# Altium schematic symbol library CL_COIL.SchLib: 1 symbol
Pins are listed as number, name and electrical type; pins without a type are passive.

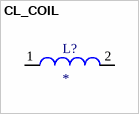
[diagram p0: symbol CL_COIL]

## CL_COIL
designator L?
pins: 1, 2